# Altium schematic symbol library SamacSys.SchLib: 3 symbols
Pins are listed as number, name and electrical type; pins without a type are passive.

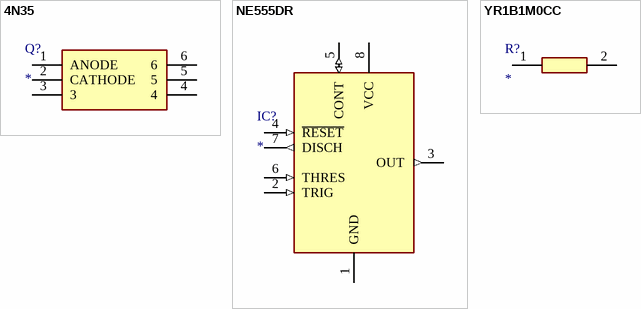
[diagram p0: symbols 4N35 to YR1B1M0CC]

## 4N35
designator Q?
Transistor; Manufacturer_Name: Isocom; Manufacturer_Part_Number: 4N35; Description: Opto-isolator,4N35 5300Vac/60mA DIP6 Isocom 4N35 DC Input Phototransistor Output Optocoupler; Datasheet Link: http://uk.rs-online.com/web/p/products/597302; Height: 4.5mm; RS Part Number: 1712954; RS Price/Stock: http://uk.rs-online.com/web/p/products/1712954
footprint DIP762W50P254L712H450Q6N
pins: 1 ANODE, 2 CATHODE, 3, 4, 5, 6

## NE555DR
designator IC?
Integrated Circuit; Manufacturer_Name: Texas Instruments; Manufacturer_Part_Number: NE555DR; Datasheet Link: http://www.ti.com/lit/ds/symlink/ne555.pdf; Height: 1.75mm; Mouser Part Number: 595-NE555DR; Mouser Price/Stock: https://www.mouser.com/Search/Refine.aspx?Keyword=595-NE555DR; RS Part Number: 1218414; RS Price/Stock: http://uk.rs-online.com/web/p/products/1218414
footprint SOIC127P600X175-8N
pins: 1 GND (power), 2 TRIG (in), 3 OUT (out), 4 ~{RESET} (in), 5 CONT (io), 6 THRES (in), 7 DISCH (out), 8 VCC (power)

## YR1B1M0CC
designator R?
Resistor; Manufacturer_Name: TE Connectivity; Manufacturer_Part_Number: YR1B1M0CC; Description: Precision metal film resistor 0.1% 1M0 TE Connectivity R Series Axial Through Hole Fixed Resistor 1M +/-0.1% 0.25W +/-15ppm/C; Allied_Number: 70300029; Datasheet Link: http://www.te.com/commerce/DocumentDelivery/DDEController?Action=showdoc&DocId=Data+Sheet%7F1773265%7FA%7Fpdf%7FEnglish%7FENG_DS_1773265_A.pdf%7F2-1676913-7; Mouser Part Number: 279-YR1B1M0CC; Mouser Price/Stock: https://www.mouser.com/Search/Refine.aspx?Keyword=279-YR1B1M0CC; RS Part Number: 1649061; RS Price/Stock: http://uk.rs-online.com/web/p/products/1649061; Allied Price/Stock: https://www.alliedelec.com/te-connectivity-yr1b1m0cc/70300029/
footprint RESAD1550W60L630D230
pins: 1, 2